# Altium footprint library Micro SD Card.PcbLib: 1 footprints
Each footprint in its own frame and in the unit in brackets; x right, y up, seen from the top. Pads: shape width x height; smd on the part's side, far side on the other; paste and mask are expansions set on the pad; w line width, h text height; cw(c..) or ccw(c..) is an arc to the next point about the centre after c.
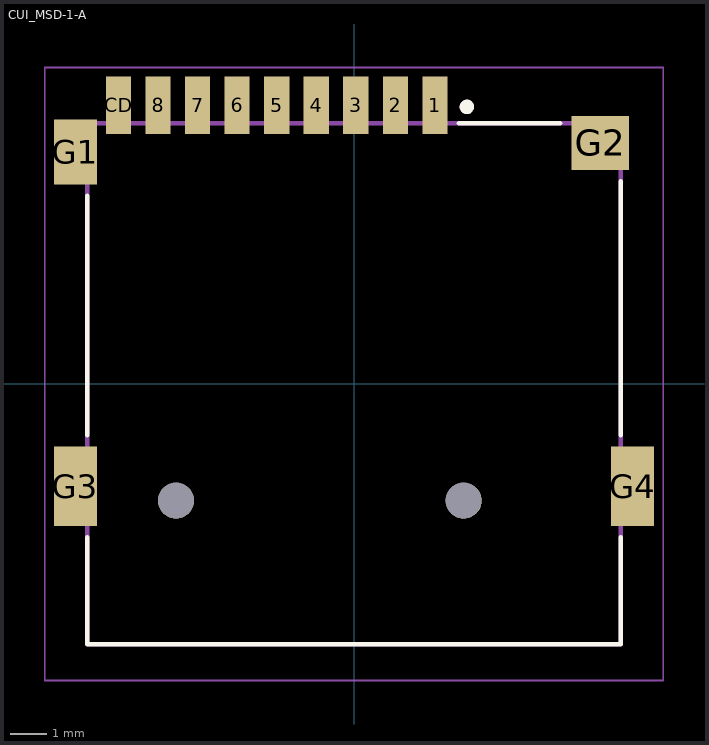
[diagram p0: the footprint, top view; thin cyan lines are the x and y axes]

## CUI_MSD-1-A [mm]
height 2
pads (15):
  rect 0.7x1.6 smd: 1(2.25,7.75) 2(1.15,7.75) 3(0.05,7.75) 4(-1.05,7.75) 5(-2.15,7.75) 6(-3.25,7.75) 7(-4.35,7.75) 8(-5.45,7.75) CD(-6.55,7.75)
  rect 1.2x1.8 smd: G1(-7.75,6.45)
  rect 1.6x1.5 smd: G2(6.85,6.7)
  rect 1.2x2.2 smd: G3(-7.75,-2.85) G4(7.75,-2.85)
  round 1 hole 1 unplated: ""(-4.95,-3.25) ""(3.05,-3.25)
Top Overlay:
  circle w0.2: c3.139,7.703 r0.1
  lines w0.127: -7.425,-4.27 -7.425,-7.25 7.425,-7.25 7.425,-4.27 ; -7.425,-1.43 -7.425,5.23 ; 2.92,7.25 5.73,7.25 ; 7.425,-1.43 7.425,5.63
Mechanical 13:
  circle w0.2: c3.139,7.703 r0.1
  lines w0.127: -7.425,-7.25 -6.45,-7.25 4.55,-7.25 7.425,-7.25 7.425,7.25 -7.425,7.25 -7.425,-7.25
Mechanical 15:
  lines w0.05: -8.6,-8.255 -8.6,8.8 8.6,8.8 8.6,-8.255 -8.6,-8.255
3D body "Micro SD Card.STEP": height 1.8, standoff -0.6, extent -8.025,-7.3 8.125,7.75